# Altium schematic symbol library led-smd-0603-dome.SchLib: 5 symbols
Pins are listed as number, name and electrical type; pins without a type are passive.

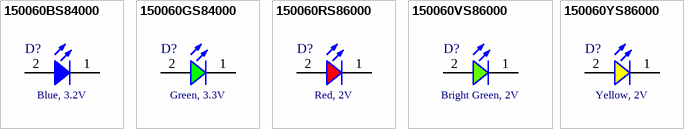
[diagram p0: symbols 150060BS84000 to 150060YS86000]

## 150060BS84000
designator D?, comment Blue, 3.2V
WL-SMCW SMT Mono-color Chip LED Waterclear, size 0603 dome, Blue, 3.2V, 40deg; Part Number: 150060BS84000; Chip Technology: InGaN; Dominant Wavelength typ.: 470nm; Luminous Intensity typ.: 560mcd; Peak Wavelength typ.: 465nm; Viewing Angle: 40deg; ComponentLink1Description: Manufacturer; ComponentLink1URL: http://www.we-online.de; ComponentLink2URL: https://www.we-online.com/catalog/datasheet/150060BS84000.pdf; ComponentLink2Description: Datasheet; Forward Voltage typ.: 3.2V; Emitting Color: Blue; Mounting Technology: SMT; Operating Temperature: -40 to +85degC; Published Date: December 2019; Packaging: Tape and Reel; Size: 0603 dome; Publisher: Wurth Elektronik
footprint WL-SMCW_0603 dome
pins: 1 K, 2 A

## 150060GS84000
designator D?, comment Green, 3.3V
WL-SMCW SMT Mono-color Chip LED Waterclear, size 0603 dome, Green, 3.3V, 40deg; Part Number: 150060GS84000; Chip Technology: InGaN; Dominant Wavelength typ.: 525nm; Luminous Intensity typ.: 3000mcd; Peak Wavelength typ.: 520nm; Viewing Angle: 40deg; ComponentLink1Description: Manufacturer; ComponentLink1URL: http://www.we-online.de; ComponentLink2URL: https://www.we-online.com/catalog/datasheet/150060GS84000.pdf; ComponentLink2Description: Datasheet; Forward Voltage typ.: 3.3V; Emitting Color: Green; Mounting Technology: SMT; Operating Temperature: -40 to +85degC; Published Date: December 2019; Packaging: Tape and Reel; Size: 0603 dome; Publisher: Wurth Elektronik
footprint WL-SMCW_0603 dome
pins: 1 K, 2 A

## 150060RS86000
designator D?, comment Red, 2V
WL-SMCW SMT Mono-color Chip LED Waterclear, size 0603 dome, Red, 2V, 60deg; Part Number: 150060RS86000; Chip Technology: AlInGaP; Dominant Wavelength typ.: 624nm; Luminous Intensity typ.: 800mcd; Peak Wavelength typ.: 632nm; Viewing Angle: 60deg; ComponentLink1Description: Manufacturer; ComponentLink1URL: http://www.we-online.de; ComponentLink2URL: https://www.we-online.com/catalog/datasheet/150060RS86000.pdf; ComponentLink2Description: Datasheet; Forward Voltage typ.: 2V; Emitting Color: Red; Mounting Technology: SMT; Operating Temperature: -40 to +85degC; Published Date: December 2019; Packaging: Tape and Reel; Size: 0603 dome; Publisher: Wurth Elektronik
footprint WL-SMCW_0603 dome (SMD Mono-color Chip LED, body 1.6x0.8mm)
pins: 1 K, 2 A

## 150060VS86000
designator D?, comment Bright Green, 2V
WL-SMCW SMT Mono-color Chip LED Waterclear, size 0603 dome, Bright Green, 2V, 60deg; Part Number: 150060VS86000; Chip Technology: AlInGaP; Dominant Wavelength typ.: 573nm; Luminous Intensity typ.: 300mcd; Peak Wavelength typ.: 575nm; Viewing Angle: 60deg; ComponentLink1Description: Manufacturer; ComponentLink1URL: http://www.we-online.de; ComponentLink2URL: https://www.we-online.com/catalog/datasheet/150060VS86000.pdf; ComponentLink2Description: Datasheet; Forward Voltage typ.: 2V; Emitting Color: Bright Green; Mounting Technology: SMT; Operating Temperature: -40 to +85degC; Published Date: December 2019; Packaging: Tape and Reel; Size: 0603 dome; Publisher: Wurth Elektronik
footprint WL-SMCW_0603 dome
pins: 1 K, 2 A

## 150060YS86000
designator D?, comment Yellow, 2V
WL-SMCW SMT Mono-color Chip LED Waterclear, size 0603 dome, Yellow, 2V, 60deg; Part Number: 150060YS86000; Chip Technology: AlInGaP; Dominant Wavelength typ.: 589nm; Luminous Intensity typ.: 450mcd; Peak Wavelength typ.: 591nm; Viewing Angle: 60deg; ComponentLink1Description: Manufacturer; ComponentLink1URL: http://www.we-online.de; ComponentLink2URL: https://www.we-online.com/catalog/datasheet/150060YS86000.pdf; ComponentLink2Description: Datasheet; Forward Voltage typ.: 2V; Emitting Color: Yellow; Mounting Technology: SMT; Operating Temperature: -40 to +85degC; Published Date: December 2019; Packaging: Tape and Reel; Size: 0603 dome; Publisher: Wurth Elektronik
footprint WL-SMCW_0603 dome
pins: 1 K, 2 A